# EAGLE library part LPF (library ABI)
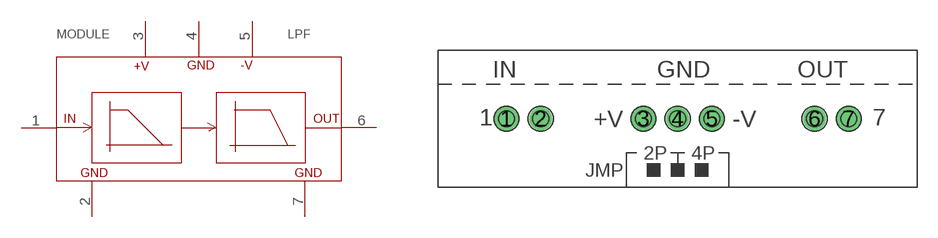
[diagram p4: symbol with the pads of LPF; footprint LPF]

Designator prefix MODULE

## LPF  [LPF]
1  P$1
2  P$2
3  P$3
4  P$4
5  P$5
6  P$6
7  P$7

## Footprint LPF (pad centres in mm)
drill 1.016 pad 1.676 round: 1 -12.7,0; 2 -10.16,0; 3 -2.54,0; 4 0,0; 5 2.54,0; 6 10.16,0; 7 12.7,0